# Altium schematic symbol library MMBT2222A-TP.SchLib: 1 symbol
Pins are listed as number, name and electrical type; pins without a type are passive.

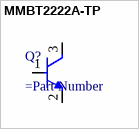
[diagram p0: symbol MMBT2222A-TP]

## MMBT2222A-TP
designator Q?
=Description
pins: 1 B, 2 E, 3 C